# Altium schematic symbol library микросхемы прочие.SchLib: 59 symbols
Pins are listed as number, name and electrical type; pins without a type are passive.

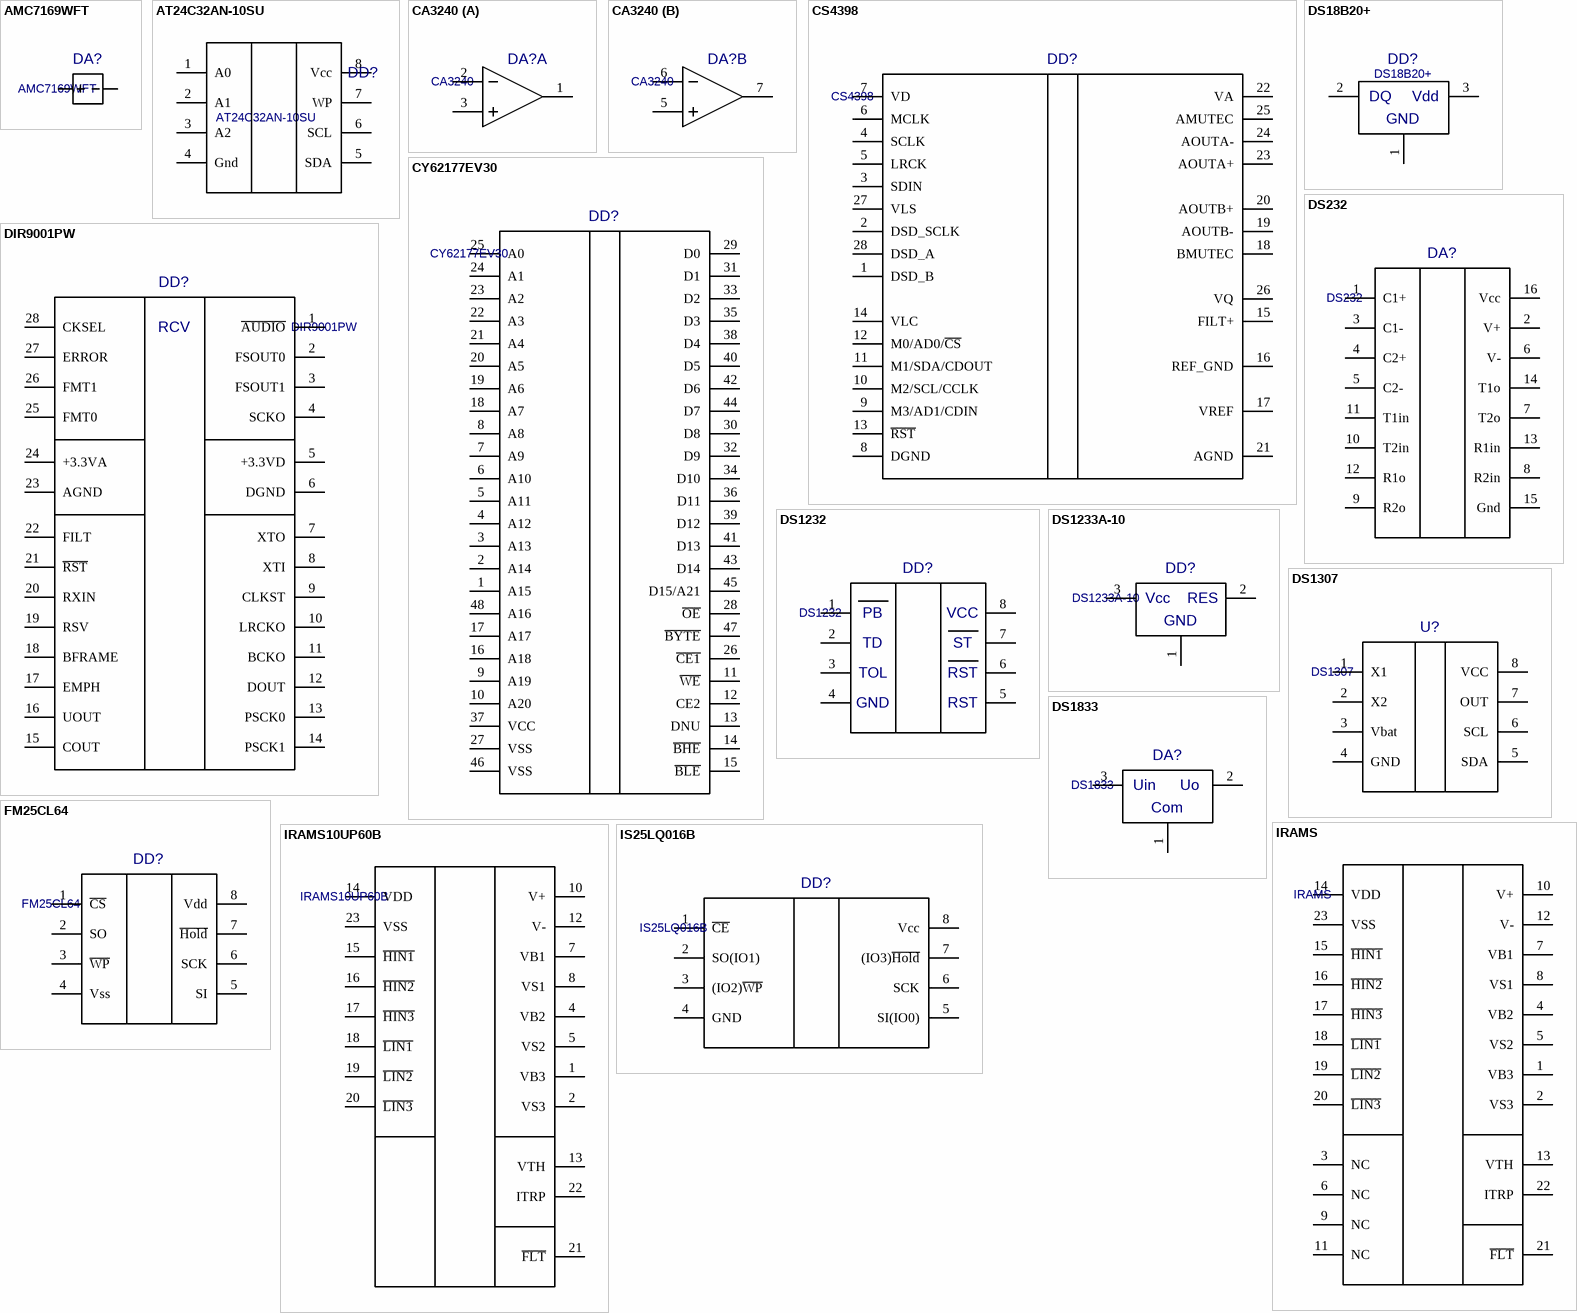
[diagram p0: symbols AMC7169WFT to IS25LQ016B]

## AMC7169WFT
designator DA?
Value: AMC7169WFT
footprint AMC7169
pins: 1 A, 2 K

## AT24C32AN-10SU
designator DD?
Two-wire / Serial EEPROM / 32K (4096 x 8); Value: AT24C32AN-10SU
footprint SO8
pins: 1 A0, 2 A1, 3 A2, 4 Gnd, 5 SDA, 6 SCL, 7 WP, 8 Vcc

## CA3240
designator DA?
Value: CA3240
footprint DIP8
pins on every part: 4 GND (power) hidden, 8 +12V (power) hidden
part A pins: 1 OUT, 2 IN-, 3 IN+
part B pins: 5 IN+, 6 IN-, 7 OUT

## CS4398
designator DD?
Value: CS4398
footprint TSSOP28
pins: 1 DSD_B, 2 DSD_SCLK, 3 SDIN, 4 SCLK, 5 LRCK, 6 MCLK, 7 VD, 8 DGND, 9 M3/AD1/CDIN, 10 M2/SCL/CCLK, 11 M1/SDA/CDOUT, 12 M0/AD0/~{CS}, 13 ~{RST}, 14 VLC, 15 FILT+, 16 REF_GND, 17 VREF, 18 BMUTEC, 19 AOUTB-, 20 AOUTB+, 21 AGND, 22 VA, 23 AOUTA+, 24 AOUTA-, 25 AMUTEC, 26 VQ, 27 VLS, 28 DSD_A

## CY62177EV30
designator DD?
Value: CY62177EV30
footprint TSOP48
pins: 1 A15, 2 A14, 3 A13, 4 A12, 5 A11, 6 A10, 7 A9, 8 A8, 9 A19, 10 A20, 11 ~{WE}, 12 CE2, 13 DNU, 14 ~{BHE}, 15 ~{BLE}, 16 A18, 17 A17, 18 A7, 19 A6, 20 A5, 21 A4, 22 A3, 23 A2, 24 A1, 25 A0, 26 ~{CE1}, 27 VSS, 28 ~{OE}, 29 D0, 30 D8, 31 D1, 32 D9, 33 D2, 34 D10, 35 D3, 36 D11, 37 VCC, 38 D4, 39 D12, 40 D5, 41 D13, 42 D6, 43 D14, 44 D7, 45 D15/A21, 46 VSS, 47 ~{BYTE}, 48 A16

## DIR9001PW
designator DD?
Value: DIR9001PW
footprint SSOP28
pins: 1 ~{AUDIO}, 2 FSOUT0, 3 FSOUT1, 4 SCKO, 5 +3.3VD, 6 DGND, 7 XTO, 8 XTI, 9 CLKST, 10 LRCKO, 11 BCKO, 12 DOUT, 13 PSCK0, 14 PSCK1, 15 COUT, 16 UOUT, 17 EMPH, 18 BFRAME, 19 RSV, 20 RXIN, 21 ~{RST}, 22 FILT, 23 AGND, 24 +3.3VA, 25 FMT0, 26 FMT1, 27 ERROR, 28 CKSEL
text: RCV

## DS18B20+
designator DD?
Value: DS18B20+
footprint TO-92
pins: 1, 2, 3
text: DQ; Vdd; GND

## DS232
designator DA?
Value: DS232
footprint DIP16
pins: 1 C1+, 2 V+, 3 C1-, 4 C2+, 5 C2-, 6 V-, 7 T2o, 8 R2in, 9 R2o, 10 T2in, 11 T1in, 12 R1o, 13 R1in, 14 T1o, 15 Gnd, 16 Vcc

## DS1232
designator DD?
Value: DS1232
footprint DIP8
pins: 1, 2, 3, 4 GND, 5, 6, 7, 8 +5V
text: PB; VCC; TD; ST; TOL; RST

## DS1233A-10
designator DD?
Value: DS1233A-10
footprint TO-92
pins: 1, 2, 3
text: Vcc; RES; GND

## DS1307
designator U?
Value: DS1307
pins: 1 X1, 2 X2, 3 Vbat, 4 GND, 5 SDA, 6 SCL, 7 OUT, 8 VCC

## DS1833
designator DA?
Value: DS1833
footprint TO-92
pins: 1, 2, 3
text: Uin; Uo; Com

## FM25CL64
designator DD?
Value: FM25CL64
footprint SO8
pins: 1 ~{CS}, 2 SO, 3 ~{WP}, 4 Vss, 5 SI, 6 SCK, 7 ~{Hold}, 8 Vdd

## IRAMS
designator U?
Value: IRAMS
pins: 1 VB3, 2 VS3, 3 NC, 4 VB2, 5 VS2, 6 NC, 7 VB1, 8 VS1, 9 NC, 10 V+, 11 NC, 12 V-, 13 VTH, 14 VDD, 15 ~{HIN1}, 16 ~{HIN2}, 17 ~{HIN3}, 18 ~{LIN1}, 19 ~{LIN2}, 20 ~{LIN3}, 21 ~{FLT}, 22 ITRP, 23 VSS

## IRAMS10UP60B
designator DA?
Value: IRAMS10UP60B
footprint IRAMS10UP60B
pins: 1 VB3, 2 VS3, 4 VB2, 5 VS2, 7 VB1, 8 VS1, 10 V+, 12 V-, 13 VTH, 14 VDD, 15 ~{HIN1}, 16 ~{HIN2}, 17 ~{HIN3}, 18 ~{LIN1}, 19 ~{LIN2}, 20 ~{LIN3}, 21 ~{FLT}, 22 ITRP, 23 VSS

## IS25LQ016B
designator DD?
Value: IS25LQ016B
footprint SO8
pins: 1 ~{CE}, 2 SO(IO1), 3 (IO2)~{WP}, 4 GND, 5 SI(IO0), 6 SCK, 7 (IO3)~{Hold}, 8 Vcc

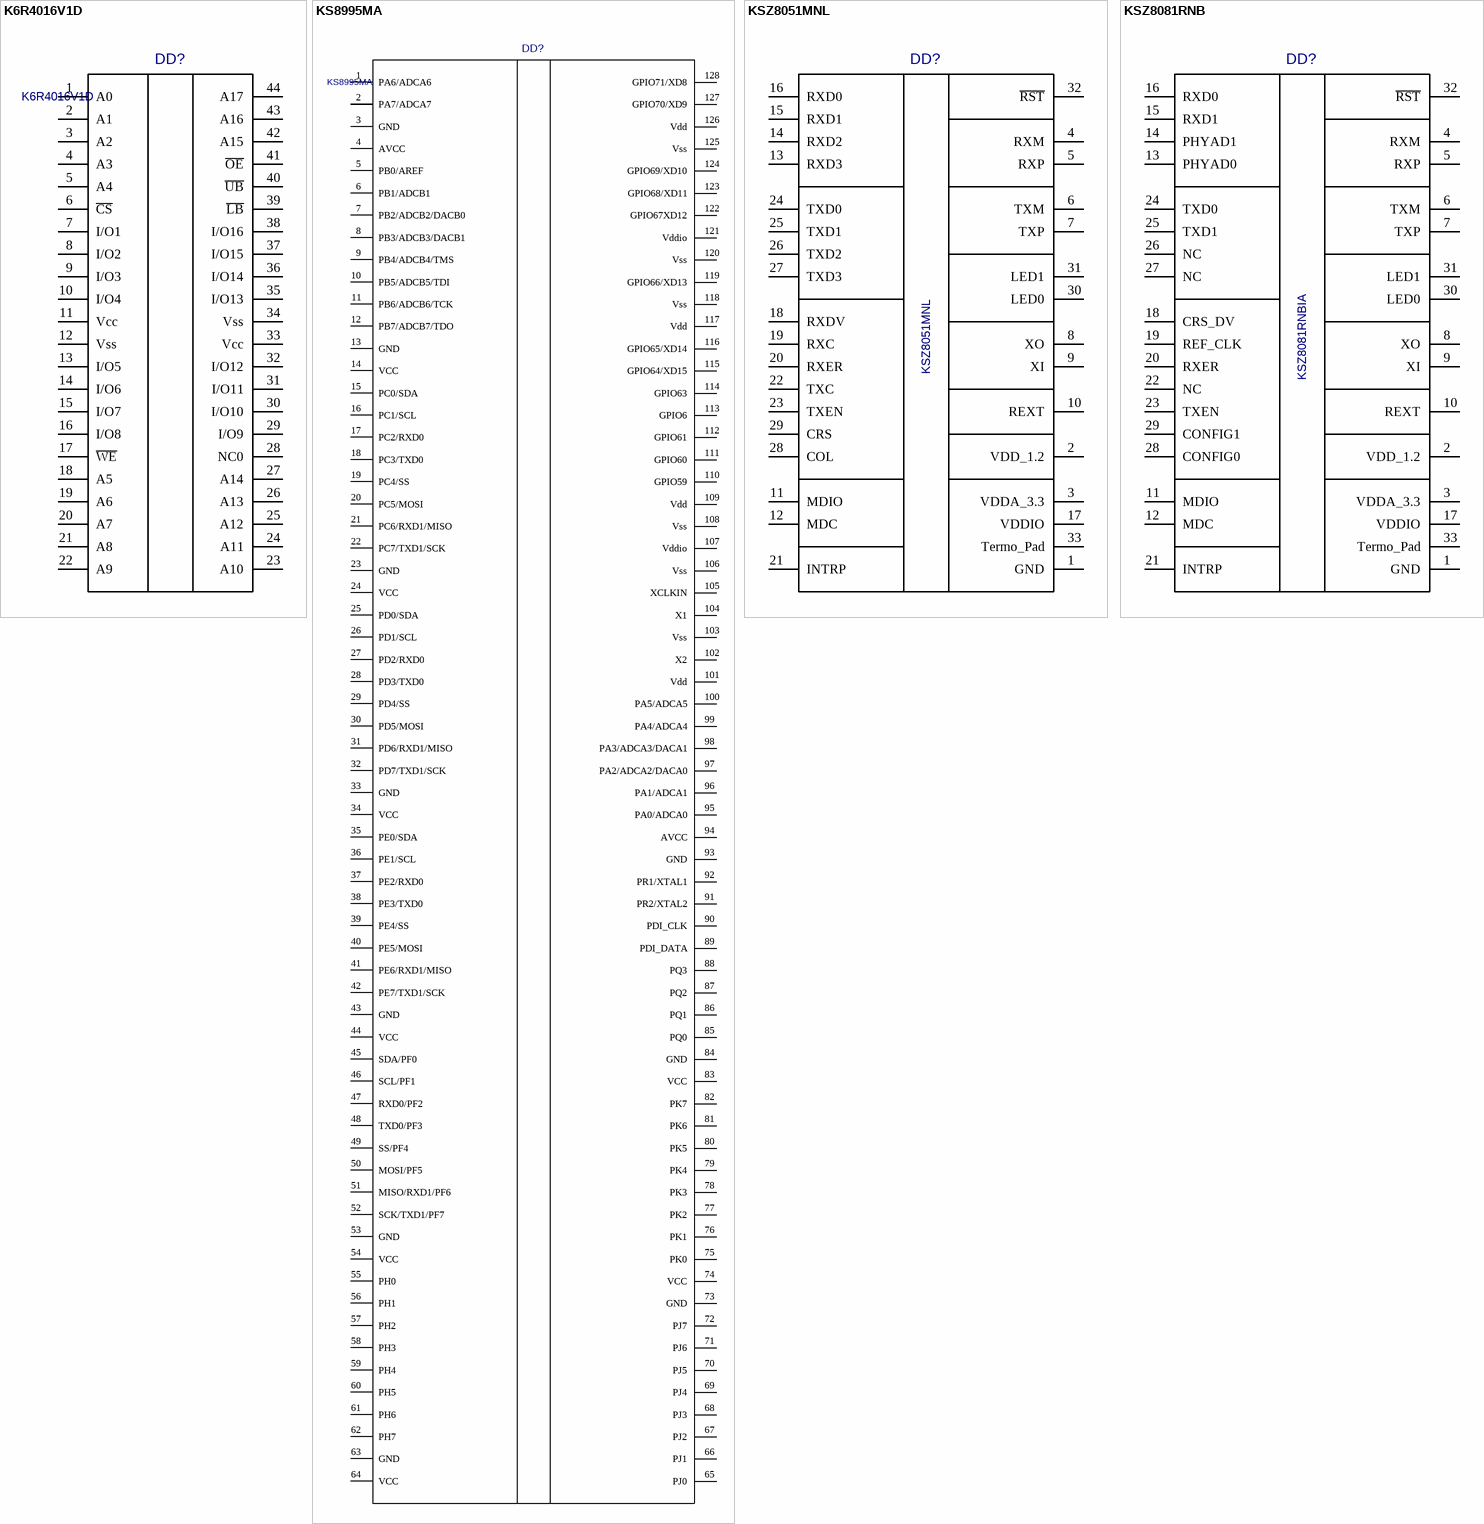
[diagram p1: symbols K6R4016V1D to KSZ8081RNB]

## K6R4016V1D
designator DD?
Value: K6R4016V1D
footprint K6R4016V1D
pins: 1 A0, 2 A1, 3 A2, 4 A3, 5 A4, 6 ~{CS}, 7 I/O1, 8 I/O2, 9 I/O3, 10 I/O4, 11 Vcc, 12 Vss, 13 I/O5, 14 I/O6, 15 I/O7, 16 I/O8, 17 ~{WE}, 18 A5, 19 A6, 20 A7, 21 A8, 22 A9, 23 A10, 24 A11, 25 A12, 26 A13, 27 A14, 28 NC0, 29 I/O9, 30 I/O10, 31 I/O11, 32 I/O12, 33 Vcc, 34 Vss, 35 I/O13, 36 I/O14, 37 I/O15, 38 I/O16, 39 ~{LB}, 40 ~{UB}, 41 ~{OE}, 42 A15, 43 A16, 44 A17

## KS8995MA
designator DD?
Value: KS8995MA
footprint PQFP128-STEP0.5
pins: 1 PA6/ADCA6, 2 PA7/ADCA7, 3 GND, 4 AVCC, 5 PB0/AREF, 6 PB1/ADCB1, 7 PB2/ADCB2/DACB0, 8 PB3/ADCB3/DACB1, 9 PB4/ADCB4/TMS, 10 PB5/ADCB5/TDI, 11 PB6/ADCB6/TCK, 12 PB7/ADCB7/TDO, 13 GND, 14 VCC, 15 PC0/SDA, 16 PC1/SCL, 17 PC2/RXD0, 18 PC3/TXD0, 19 PC4/SS, 20 PC5/MOSI, 21 PC6/RXD1/MISO, 22 PC7/TXD1/SCK, 23 GND, 24 VCC, 25 PD0/SDA, 26 PD1/SCL, 27 PD2/RXD0, 28 PD3/TXD0, 29 PD4/SS, 30 PD5/MOSI, 31 PD6/RXD1/MISO, 32 PD7/TXD1/SCK, 33 GND, 34 VCC, 35 PE0/SDA, 36 PE1/SCL, 37 PE2/RXD0, 38 PE3/TXD0, 39 PE4/SS, 40 PE5/MOSI, 41 PE6/RXD1/MISO, 42 PE7/TXD1/SCK, 43 GND, 44 VCC, 45 SDA/PF0, 46 SCL/PF1, 47 RXD0/PF2, 48 TXD0/PF3, 49 SS/PF4, 50 MOSI/PF5, 51 MISO/RXD1/PF6, 52 SCK/TXD1/PF7, 53 GND, 54 VCC, 55 PH0, 56 PH1, 57 PH2, 58 PH3, 59 PH4, 60 PH5, 61 PH6, 62 PH7, 63 GND, 64 VCC, 65 PJ0, 66 PJ1, 67 PJ2, 68 PJ3, 69 PJ4, 70 PJ5, 71 PJ6, 72 PJ7, 73 GND, 74 VCC, 75 PK0, 76 PK1, 77 PK2, 78 PK3, 79 PK4, 80 PK5, 81 PK6, 82 PK7, 83 VCC, 84 GND, 85 PQ0, 86 PQ1, 87 PQ2, 88 PQ3, 89 PDI_DATA, 90 PDI_CLK, 91 PR2/XTAL2, 92 PR1/XTAL1, 93 GND, 94 AVCC, 95 PA0/ADCA0, 96 PA1/ADCA1, 97 PA2/ADCA2/DACA0, 98 PA3/ADCA3/DACA1, 99 PA4/ADCA4, 100 PA5/ADCA5, 101 Vdd, 102 X2, 103 Vss, 104 X1, 105 XCLKIN, 106 Vss, 107 Vddio, 108 Vss, 109 Vdd, 110 GPIO59, 111 GPIO60, 112 GPIO61, 113 GPIO6, 114 GPIO63, 115 GPIO64/XD15, 116 GPIO65/XD14, 117 Vdd, 118 Vss, 119 GPIO66/XD13, 120 Vss, 121 Vddio, 122 GPIO67XD12, 123 GPIO68/XD11, 124 GPIO69/XD10, 125 Vss, 126 Vdd, 127 GPIO70/XD9, 128 GPIO71/XD8

## KSZ8051MNL
designator DD?
Value: KSZ8051MNL
footprint QFN32+TERMO_PAD
pins: 1 GND, 2 VDD_1.2, 3 VDDA_3.3, 4 RXM, 5 RXP, 6 TXM, 7 TXP, 8 XO, 9 XI, 10 REXT, 11 MDIO, 12 MDC, 13 RXD3, 14 RXD2, 15 RXD1, 16 RXD0, 17 VDDIO, 18 RXDV, 19 RXC, 20 RXER, 21 INTRP, 22 TXC, 23 TXEN, 24 TXD0, 25 TXD1, 26 TXD2, 27 TXD3, 28 COL, 29 CRS, 30 LED0, 31 LED1, 32 ~{RST}, 33 Termo_Pad

## KSZ8081RNB
designator DD?, comment KSZ8081RNBIA
Value: KSZ8081RNBIA
footprint QFN32+TERMO_PAD
pins: 1 GND, 2 VDD_1.2, 3 VDDA_3.3, 4 RXM, 5 RXP, 6 TXM, 7 TXP, 8 XO, 9 XI, 10 REXT, 11 MDIO, 12 MDC, 13 PHYAD0, 14 PHYAD1, 15 RXD1, 16 RXD0, 17 VDDIO, 18 CRS_DV, 19 REF_CLK, 20 RXER, 21 INTRP, 22 NC, 23 TXEN, 24 TXD0, 25 TXD1, 26 NC, 27 NC, 28 CONFIG0, 29 CONFIG1, 30 LED0, 31 LED1, 32 ~{RST}, 33 Termo_Pad

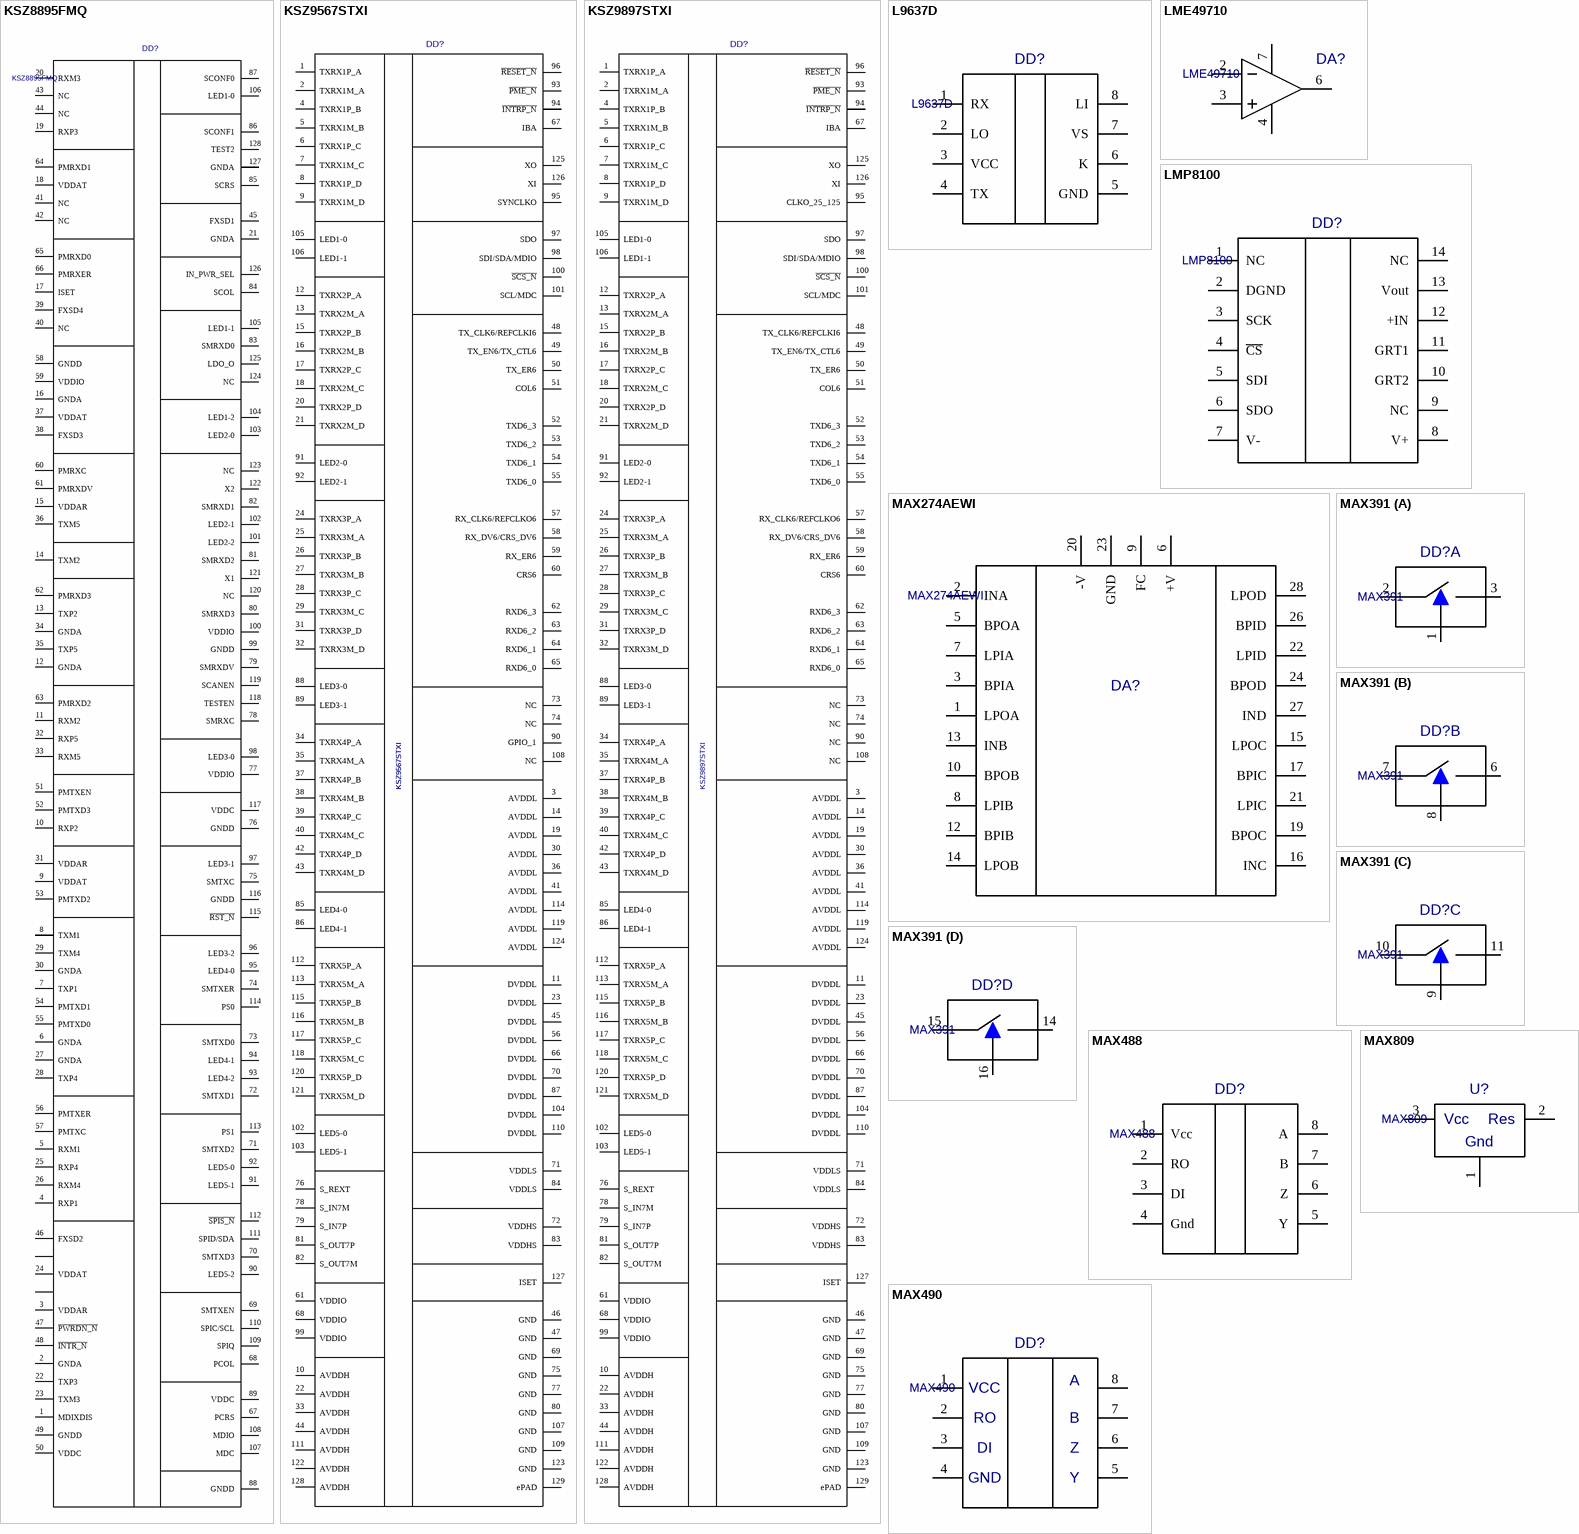
[diagram p2: symbols KSZ8895FMQ to MAX809]

## KSZ8895FMQ
designator DD?
Value: KSZ8895FMQ
footprint PQFP128-STEP0.5
pins: 1 MDIXDIS, 2 GNDA, 3 VDDAR, 4 RXP1, 5 RXM1, 6 GNDA, 7 TXP1, 8 TXM1, 9 VDDAT, 10 RXP2, 11 RXM2, 12 GNDA, 13 TXP2, 14 TXM2, 15 VDDAR, 16 GNDA, 17 ISET, 18 VDDAT, 19 RXP3, 20 RXM3, 21 GNDA, 22 TXP3, 23 TXM3, 24 VDDAT, 25 RXP4, 26 RXM4, 27 GNDA, 28 TXP4, 29 TXM4, 30 GNDA, 31 VDDAR, 32 RXP5, 33 RXM5, 34 GNDA, 35 TXP5, 36 TXM5, 37 VDDAT, 38 FXSD3, 39 FXSD4, 40 NC, 41 NC, 42 NC, 43 NC, 44 NC, 45 FXSD1, 46 FXSD2, 47 ~{PWRDN_N}, 48 ~{INTR_N}, 49 GNDD, 50 VDDC, 51 PMTXEN, 52 PMTXD3, 53 PMTXD2, 54 PMTXD1, 55 PMTXD0, 56 PMTXER, 57 PMTXC, 58 GNDD, 59 VDDIO, 60 PMRXC, 61 PMRXDV, 62 PMRXD3, 63 PMRXD2, 64 PMRXD1, 65 PMRXD0, 66 PMRXER, 67 PCRS, 68 PCOL, 69 SMTXEN, 70 SMTXD3, 71 SMTXD2, 72 SMTXD1, 73 SMTXD0, 74 SMTXER, 75 SMTXC, 76 GNDD, 77 VDDIO, 78 SMRXC, 79 SMRXDV, 80 SMRXD3, 81 SMRXD2, 82 SMRXD1, 83 SMRXD0, 84 SCOL, 85 SCRS, 86 SCONF1, 87 SCONF0, 88 GNDD, 89 VDDC, 90 LED5-2, 91 LED5-1, 92 LED5-0, 93 LED4-2, 94 LED4-1, 95 LED4-0, 96 LED3-2, 97 LED3-1, 98 LED3-0, 99 GNDD, 100 VDDIO, 101 LED2-2, 102 LED2-1, 103 LED2-0, 104 LED1-2, 105 LED1-1, 106 LED1-0, 107 MDC, 108 MDIO, 109 SPIQ, 110 SPIC/SCL, 111 SPID/SDA, 112 ~{SPIS_N}, 113 PS1, 114 PS0, 115 ~{RST_N}, 116 GNDD, 117 VDDC, 118 TESTEN, 119 SCANEN, 120 NC, 121 X1, 122 X2, 123 NC, 124 NC, 125 LDO_O, 126 IN_PWR_SEL, 127 GNDA, 128 TEST2

## KSZ9567STXI
designator DD?
Value: KSZ9567STXI
footprint TQFP-128_WITH_TERMO_PAD
pins: 1 TXRX1P_A, 2 TXRX1M_A, 3 AVDDL, 4 TXRX1P_B, 5 TXRX1M_B, 6 TXRX1P_C, 7 TXRX1M_C, 8 TXRX1P_D, 9 TXRX1M_D, 10 AVDDH, 11 DVDDL, 12 TXRX2P_A, 13 TXRX2M_A, 14 AVDDL, 15 TXRX2P_B, 16 TXRX2M_B, 17 TXRX2P_C, 18 TXRX2M_C, 19 AVDDL, 20 TXRX2P_D, 21 TXRX2M_D, 22 AVDDH, 23 DVDDL, 24 TXRX3P_A, 25 TXRX3M_A, 26 TXRX3P_B, 27 TXRX3M_B, 28 TXRX3P_C, 29 TXRX3M_C, 30 AVDDL, 31 TXRX3P_D, 32 TXRX3M_D, 33 AVDDH, 34 TXRX4P_A, 35 TXRX4M_A, 36 AVDDL, 37 TXRX4P_B, 38 TXRX4M_B, 39 TXRX4P_C, 40 TXRX4M_C, 41 AVDDL, 42 TXRX4P_D, 43 TXRX4M_D, 44 AVDDH, 45 DVDDL, 46 GND, 47 GND, 48 TX_CLK6/REFCLKI6, 49 TX_EN6/TX_CTL6, 50 TX_ER6, 51 COL6, 52 TXD6_3, 53 TXD6_2, 54 TXD6_1, 55 TXD6_0, 56 DVDDL, 57 RX_CLK6/REFCLKO6, 58 RX_DV6/CRS_DV6, 59 RX_ER6, 60 CRS6, 61 VDDIO, 62 RXD6_3, 63 RXD6_2, 64 RXD6_1, 65 RXD6_0, 66 DVDDL, 67 IBA, 68 VDDIO, 69 GND, 70 DVDDL, 71 VDDLS, 72 VDDHS, 73 NC, 74 NC, 75 GND, 76 S_REXT, 77 GND, 78 S_IN7M, 79 S_IN7P, 80 GND, 81 S_OUT7P, 82 S_OUT7M, 83 VDDHS, 84 VDDLS, 85 LED4-0, 86 LED4-1, 87 DVDDL, 88 LED3-0, 89 LED3-1, 90 GPIO_1, 91 LED2-0, 92 LED2-1, 93 ~{PME_N}, 94 ~{INTRP_N}, 95 SYNCLKO, 96 ~{RESET_N}, 97 SDO, 98 SDI/SDA/MDIO, 99 VDDIO, 100 ~{SCS_N}, 101 SCL/MDC, 102 LED5-0, 103 LED5-1, 104 DVDDL, 105 LED1-0, 106 LED1-1, 107 GND, 108 NC, 109 GND, 110 DVDDL, 111 AVDDH, 112 TXRX5P_A, 113 TXRX5M_A, 114 AVDDL, 115 TXRX5P_B, 116 TXRX5M_B, 117 TXRX5P_C, 118 TXRX5M_C, 119 AVDDL, 120 TXRX5P_D, 121 TXRX5M_D, 122 AVDDH, 123 GND, 124 AVDDL, 125 XO, 126 XI, 127 ISET, 128 AVDDH, 129 ePAD

## KSZ9897STXI
designator DD?
Value: KSZ9897STXI
footprint TQFP-128_WITH_TERMO_PAD
pins: 1 TXRX1P_A, 2 TXRX1M_A, 3 AVDDL, 4 TXRX1P_B, 5 TXRX1M_B, 6 TXRX1P_C, 7 TXRX1M_C, 8 TXRX1P_D, 9 TXRX1M_D, 10 AVDDH, 11 DVDDL, 12 TXRX2P_A, 13 TXRX2M_A, 14 AVDDL, 15 TXRX2P_B, 16 TXRX2M_B, 17 TXRX2P_C, 18 TXRX2M_C, 19 AVDDL, 20 TXRX2P_D, 21 TXRX2M_D, 22 AVDDH, 23 DVDDL, 24 TXRX3P_A, 25 TXRX3M_A, 26 TXRX3P_B, 27 TXRX3M_B, 28 TXRX3P_C, 29 TXRX3M_C, 30 AVDDL, 31 TXRX3P_D, 32 TXRX3M_D, 33 AVDDH, 34 TXRX4P_A, 35 TXRX4M_A, 36 AVDDL, 37 TXRX4P_B, 38 TXRX4M_B, 39 TXRX4P_C, 40 TXRX4M_C, 41 AVDDL, 42 TXRX4P_D, 43 TXRX4M_D, 44 AVDDH, 45 DVDDL, 46 GND, 47 GND, 48 TX_CLK6/REFCLKI6, 49 TX_EN6/TX_CTL6, 50 TX_ER6, 51 COL6, 52 TXD6_3, 53 TXD6_2, 54 TXD6_1, 55 TXD6_0, 56 DVDDL, 57 RX_CLK6/REFCLKO6, 58 RX_DV6/CRS_DV6, 59 RX_ER6, 60 CRS6, 61 VDDIO, 62 RXD6_3, 63 RXD6_2, 64 RXD6_1, 65 RXD6_0, 66 DVDDL, 67 IBA, 68 VDDIO, 69 GND, 70 DVDDL, 71 VDDLS, 72 VDDHS, 73 NC, 74 NC, 75 GND, 76 S_REXT, 77 GND, 78 S_IN7M, 79 S_IN7P, 80 GND, 81 S_OUT7P, 82 S_OUT7M, 83 VDDHS, 84 VDDLS, 85 LED4-0, 86 LED4-1, 87 DVDDL, 88 LED3-0, 89 LED3-1, 90 NC, 91 LED2-0, 92 LED2-1, 93 ~{PME_N}, 94 ~{INTRP_N}, 95 CLKO_25_125, 96 ~{RESET_N}, 97 SDO, 98 SDI/SDA/MDIO, 99 VDDIO, 100 ~{SCS_N}, 101 SCL/MDC, 102 LED5-0, 103 LED5-1, 104 DVDDL, 105 LED1-0, 106 LED1-1, 107 GND, 108 NC, 109 GND, 110 DVDDL, 111 AVDDH, 112 TXRX5P_A, 113 TXRX5M_A, 114 AVDDL, 115 TXRX5P_B, 116 TXRX5M_B, 117 TXRX5P_C, 118 TXRX5M_C, 119 AVDDL, 120 TXRX5P_D, 121 TXRX5M_D, 122 AVDDH, 123 GND, 124 AVDDL, 125 XO, 126 XI, 127 ISET, 128 AVDDH, 129 ePAD

## L9637D
designator DD?
Value: L9637D
footprint SO8
pins: 1 RX, 2 LO, 3 VCC, 4 TX, 5 GND, 6 K, 7 VS, 8 LI

## LME49710
designator DA?
Value: LME49710
footprint DIP8
pins: 1 hidden, 2 IN-, 3 IN+, 4 VCC, 5 hidden, 6 OUT, 7 GND, 8 hidden

## LMP8100
designator DD?
Value: LMP8100
footprint SO14
pins: 1 NC, 2 DGND, 3 SCK, 4 ~{CS}, 5 SDI, 6 SDO, 7 V-, 8 V+, 9 NC, 10 GRT2, 11 GRT1, 12 +IN, 13 Vout, 14 NC

## MAX274AEWI
designator DA?
Value: MAX274AEWI
footprint SOL28
pins: 1 LPOA, 2 INA, 3 BPIA, 4 hidden, 5 BPOA, 6 +V, 7 LPIA, 8 LPIB, 9 FC, 10 BPOB, 11 hidden, 12 BPIB, 13 INB, 14 LPOB, 15 LPOC, 16 INC, 17 BPIC, 18 hidden, 19 BPOC, 20 -V, 21 LPIC, 22 LPID, 23 GND, 24 BPOD, 25 hidden, 26 BPID, 27 IND, 28 LPOD

## MAX391
designator DD?
Value: MAX391
footprint DIP16
pins on every part: 4 -9V (power) hidden, 5 GND (power) hidden, 12 hidden, 13 +9V (power) hidden
part A pins: 1 A, 2 B, 3 C
part B pins: 6 C, 7 B, 8 A
part C pins: 9 A, 10 B, 11 C
part D pins: 14 C, 15 B, 16 A

## MAX488
designator DD?
Value: MAX488
footprint SO8
pins: 1 Vcc, 2 RO, 3 DI, 4 Gnd, 5 Y, 6 Z, 7 B, 8 A

## MAX490
designator DD?
Value: MAX490
footprint DIP8
pins: 1 +5V, 2, 3, 4 GND, 5, 6, 7, 8
text: A; VCC; RO; B; DI; Z; Y

## MAX809
designator U?
Value: MAX809
footprint SOT-23
pins: 1, 2, 3
text: Vcc; Res; Gnd

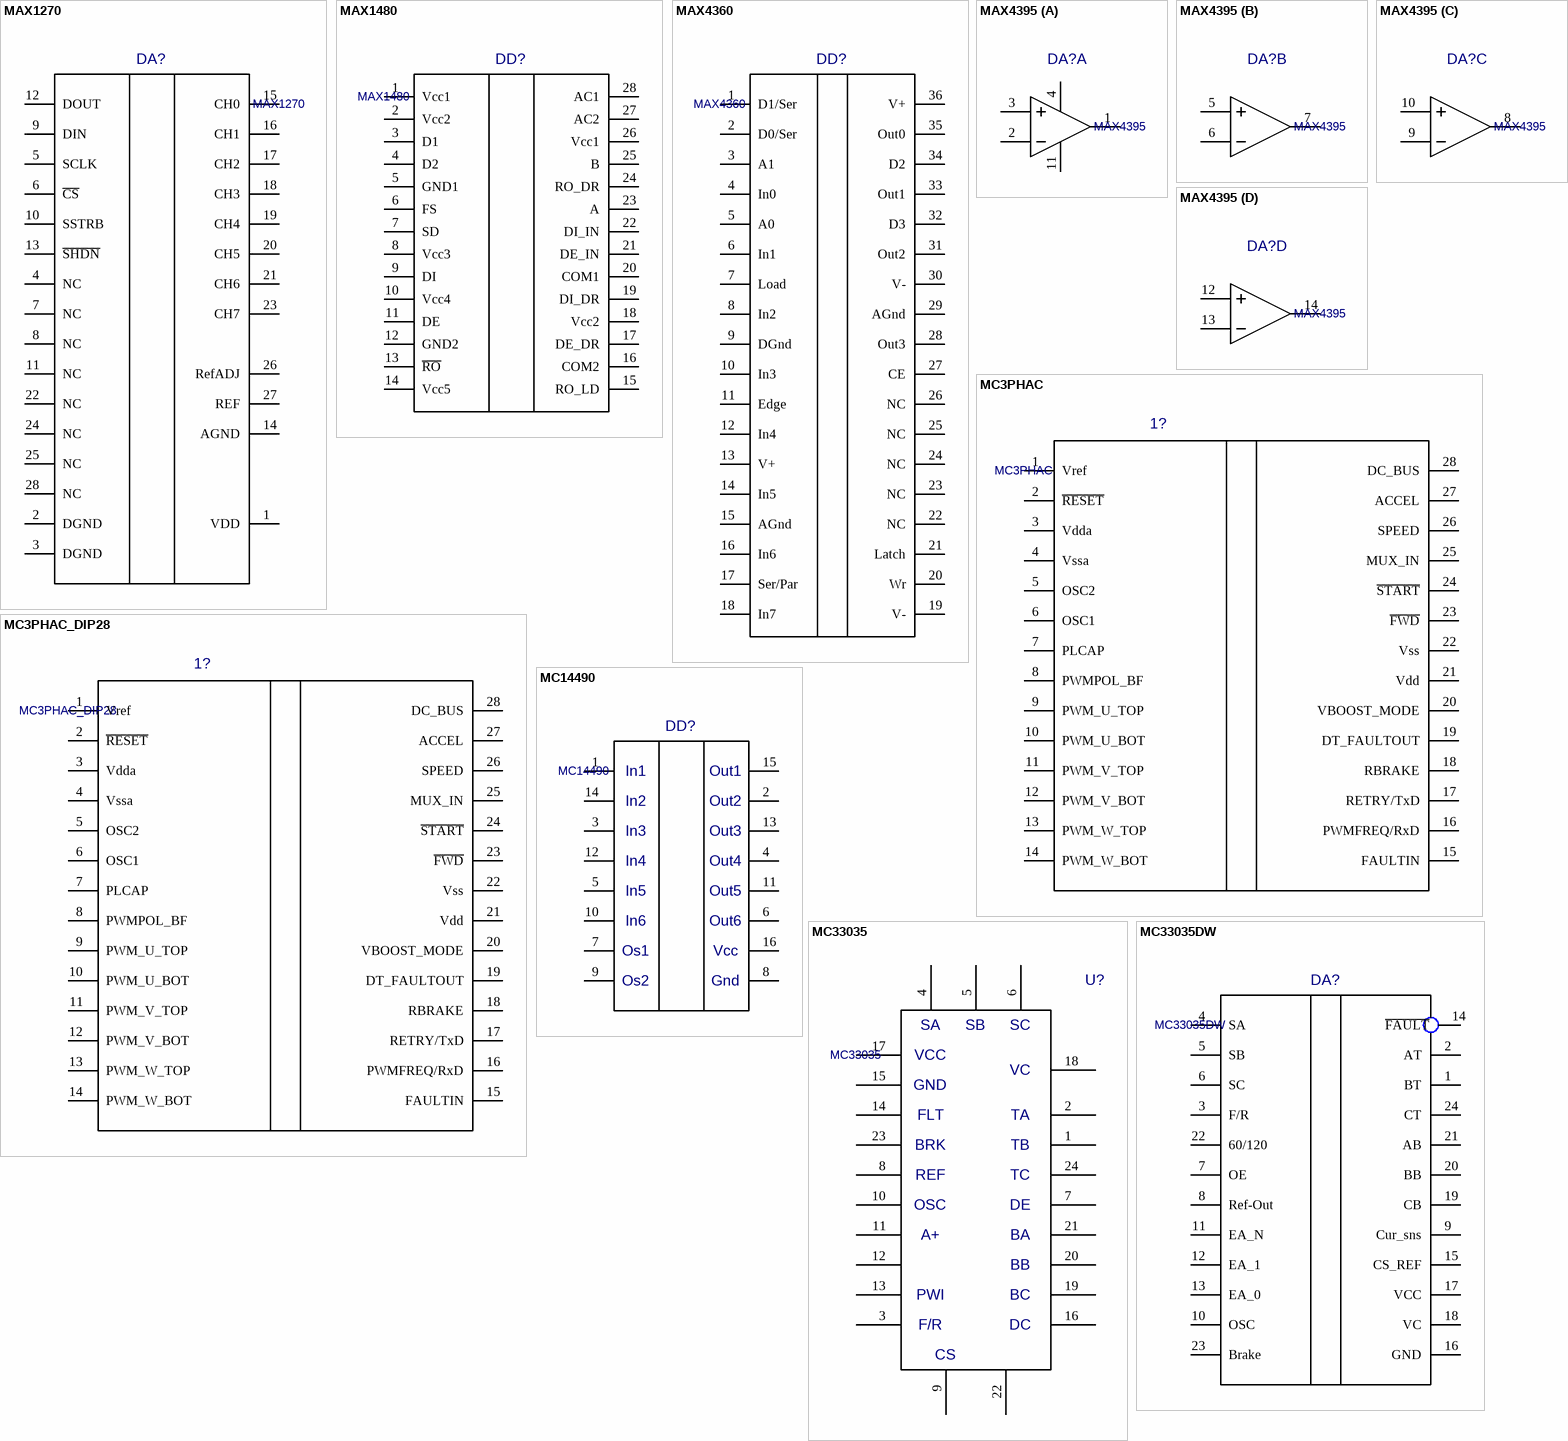
[diagram p3: symbols MAX1270 to MC33035DW]

## MAX1270
designator DA?
Value: MAX1270
footprint SSOP28
pins: 1 VDD, 2 DGND, 3 DGND, 4 NC, 5 SCLK, 6 ~{CS}, 7 NC, 8 NC, 9 DIN, 10 SSTRB, 11 NC, 12 DOUT, 13 ~{SHDN}, 14 AGND, 15 CH0, 16 CH1, 17 CH2, 18 CH3, 19 CH4, 20 CH5, 21 CH6, 22 NC, 23 CH7, 24 NC, 25 NC, 26 RefADJ, 27 REF, 28 NC

## MAX1480
designator DD?
Value: MAX1480
footprint DIP28
pins: 1 Vcc1, 2 Vcc2, 3 D1, 4 D2, 5 GND1, 6 FS, 7 SD, 8 Vcc3, 9 DI, 10 Vcc4, 11 DE, 12 GND2, 13 ~{RO}, 14 Vcc5, 15 RO_LD, 16 COM2, 17 DE_DR, 18 Vcc2, 19 DI_DR, 20 COM1, 21 DE_IN, 22 DI_IN, 23 A, 24 RO_DR, 25 B, 26 Vcc1, 27 AC2, 28 AC1

## MAX4360
designator DD?
Value: MAX4360
footprint SSOP36
pins: 1 D1/Ser, 2 D0/Ser, 3 A1, 4 In0, 5 A0, 6 In1, 7 Load, 8 In2, 9 DGnd, 10 In3, 11 Edge, 12 In4, 13 V+, 14 In5, 15 AGnd, 16 In6, 17 Ser/Par, 18 In7, 19 V-, 20 Wr, 21 Latch, 22 NC, 23 NC, 24 NC, 25 NC, 26 NC, 27 CE, 28 Out3, 29 AGnd, 30 V-, 31 Out2, 32 D3, 33 Out1, 34 D2, 35 Out0, 36 V+

## MAX4395
designator DA?
Value: MAX4395
footprint TSSOP14
part A pins: 1 OUT, 2 IN-, 3 IN+, 4 Vcc, 11 Vee
part B pins: 5 IN+, 6 IN-, 7 OutB
part C pins: 8 OutC, 9 IN-, 10 IN+
part D pins: 12 IN+, 13 IN-, 14 OutD

## MC3PHAC
designator 1?
Value: MC3PHAC
footprint SOL28
pins: 1 Vref, 2 ~{RESET}, 3 Vdda, 4 Vssa, 5 OSC2, 6 OSC1, 7 PLCAP, 8 PWMPOL_BF, 9 PWM_U_TOP, 10 PWM_U_BOT, 11 PWM_V_TOP, 12 PWM_V_BOT, 13 PWM_W_TOP, 14 PWM_W_BOT, 15 FAULTIN, 16 PWMFREQ/RxD, 17 RETRY/TxD, 18 RBRAKE, 19 DT_FAULTOUT, 20 VBOOST_MODE, 21 Vdd, 22 Vss, 23 ~{FWD}, 24 ~{START}, 25 MUX_IN, 26 SPEED, 27 ACCEL, 28 DC_BUS

## MC3PHAC_DIP28
designator 1?
Value: MC3PHAC_DIP28
footprint DIP28
pins: 1 Vref, 2 ~{RESET}, 3 Vdda, 4 Vssa, 5 OSC2, 6 OSC1, 7 PLCAP, 8 PWMPOL_BF, 9 PWM_U_TOP, 10 PWM_U_BOT, 11 PWM_V_TOP, 12 PWM_V_BOT, 13 PWM_W_TOP, 14 PWM_W_BOT, 15 FAULTIN, 16 PWMFREQ/RxD, 17 RETRY/TxD, 18 RBRAKE, 19 DT_FAULTOUT, 20 VBOOST_MODE, 21 Vdd, 22 Vss, 23 ~{FWD}, 24 ~{START}, 25 MUX_IN, 26 SPEED, 27 ACCEL, 28 DC_BUS

## MC14490
designator DD?
Value: MC14490
footprint DIP16
pins: 1 IN1, 2 OUT2, 3 IN3, 4 OUT4, 5 IN5, 6 OUT6, 7 OS1, 8 GND (power), 9 OS2, 10 IN6, 11 OUT5, 12 IN4, 13 OUT3, 14 IN2, 15 OUT1, 16 +5V (power)
text: In1; Out1; In2; Out2; In3; Out3; In4; Out4; In5; Out5; In6; Out6; Os1; Vcc; Os2; Gnd

## MC33035
designator U?
Value: MC33035
footprint DIP24
pins: 1, 2, 3, 4, 5, 6, 7, 8, 9, 10, 11, 12, 13, 14, 15, 16, 17, 18, 19, 20, 21, 22, 23, 24
text: SA; SB; SC; VCC; VC; GND; FLT; TA; BRK; TB; REF; TC; OSC; DE; A+; BA; BB; PWI; BC; F/R; DC; CS

## MC33035DW
designator DA?
Value: MC33035DW
footprint SOL24
pins: 1 BT, 2 AT, 3 F/R, 4 SA, 5 SB, 6 SC, 7 OE, 8 Ref-Out, 9 Cur_sns, 10 OSC, 11 EA_N, 12 EA_1, 13 EA_0, 14 ~{FAULT}, 15 CS_REF, 16 GND, 17 VCC, 18 VC, 19 CB, 20 BB, 21 AB, 22 60/120, 23 Brake, 24 CT

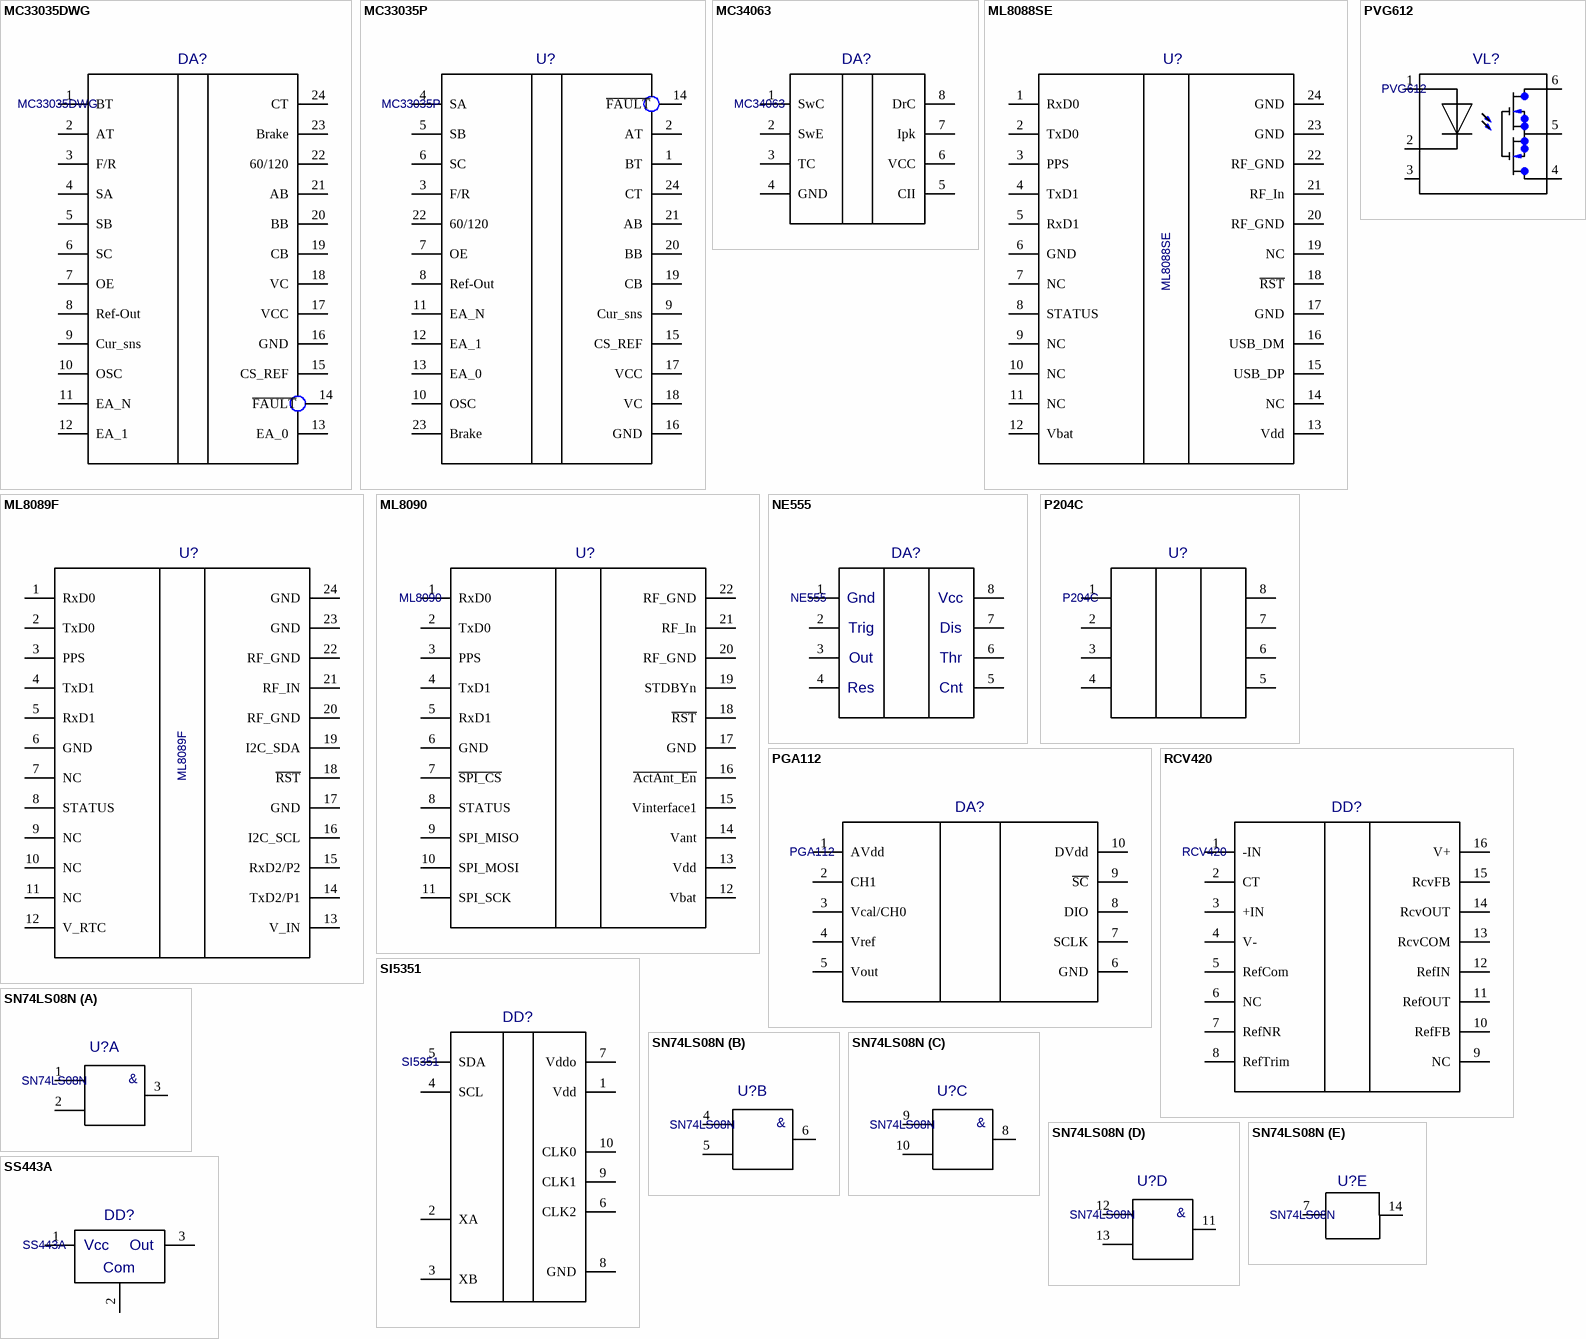
[diagram p4: symbols MC33035DWG to SS443A]

## MC33035DWG
designator DA?
Value: MC33035DWG
footprint SOL24
pins: 1 BT, 2 AT, 3 F/R, 4 SA, 5 SB, 6 SC, 7 OE, 8 Ref-Out, 9 Cur_sns, 10 OSC, 11 EA_N, 12 EA_1, 13 EA_0, 14 ~{FAULT}, 15 CS_REF, 16 GND, 17 VCC, 18 VC, 19 CB, 20 BB, 21 AB, 22 60/120, 23 Brake, 24 CT

## MC33035P
designator U?
Value: MC33035P
footprint DIP24
pins: 1 BT, 2 AT, 3 F/R, 4 SA, 5 SB, 6 SC, 7 OE, 8 Ref-Out, 9 Cur_sns, 10 OSC, 11 EA_N, 12 EA_1, 13 EA_0, 14 ~{FAULT}, 15 CS_REF, 16 GND, 17 VCC, 18 VC, 19 CB, 20 BB, 21 AB, 22 60/120, 23 Brake, 24 CT

## MC34063
designator DA?
Value: MC34063
footprint SO8
pins: 1 SwC, 2 SwE, 3 TC, 4 GND, 5 CII, 6 VCC, 7 Ipk, 8 DrC

## ML8088SE
designator U?
Value: ML8088SE
footprint ML8088SE
pins: 1 RxD0, 2 TxD0, 3 PPS, 4 TxD1, 5 RxD1, 6 GND, 7 NC, 8 STATUS, 9 NC, 10 NC, 11 NC, 12 Vbat, 13 Vdd, 14 NC, 15 USB_DP, 16 USB_DM, 17 GND, 18 ~{RST}, 19 NC, 20 RF_GND, 21 RF_In, 22 RF_GND, 23 GND, 24 GND

## ML8089F
designator U?
Value: ML8089F
footprint ML8088SE
pins: 1 RxD0, 2 TxD0, 3 PPS, 4 TxD1, 5 RxD1, 6 GND, 7 NC, 8 STATUS, 9 NC, 10 NC, 11 NC, 12 V_RTC, 13 V_IN, 14 TxD2/P1, 15 RxD2/P2, 16 I2C_SCL, 17 GND, 18 ~{RST}, 19 I2C_SDA, 20 RF_GND, 21 RF_IN, 22 RF_GND, 23 GND, 24 GND

## ML8090
designator U?
Value: ML8090
pins: 1 RxD0, 2 TxD0, 3 PPS, 4 TxD1, 5 RxD1, 6 GND, 7 ~{SPI_CS}, 8 STATUS, 9 SPI_MISO, 10 SPI_MOSI, 11 SPI_SCK, 12 Vbat, 13 Vdd, 14 Vant, 15 Vinterface1, 16 ~{ActAnt_En}, 17 GND, 18 ~{RST}, 19 STDBYn, 20 RF_GND, 21 RF_In, 22 RF_GND

## NE555
designator DA?
Value: NE555
footprint DIP8
pins: 1 VCC (power), 2 Trig, 3 Out, 4 Res, 5 Cnt, 6 Thr, 7 Dis, 8 GND (power)
text: Gnd; Vcc

## P204C
designator U?
Value: P204C
pins: 1, 2, 3, 4, 5, 6, 7, 8

## PGA112
designator DA?
Value: PGA112
footprint MSOP-10
pins: 1 AVdd, 2 CH1, 3 Vcal/CH0, 4 Vref, 5 Vout, 6 GND, 7 SCLK, 8 DIO, 9 ~{SC}, 10 DVdd

## PVG612
designator VL?
Value: PVG612
footprint DIP6
pins: 1, 2, 3, 4, 5, 6

## RCV420
designator DD?
Value: RCV420
footprint DIP16
pins: 1 -IN, 2 CT, 3 +IN, 4 V-, 5 RefCom, 6 NC, 7 RefNR, 8 RefTrim, 9 NC, 10 RefFB, 11 RefOUT, 12 RefIN, 13 RcvCOM, 14 RcvOUT, 15 RcvFB, 16 V+

## SI5351
designator DD?
Value: SI5351
footprint MSOP-10
pins: 1 Vdd, 2 XA, 3 XB, 4 SCL, 5 SDA, 6 CLK2, 7 Vddo, 8 GND, 9 CLK1, 10 CLK0

## SN74LS08N
designator U?
Value: SN74LS08N
part A pins: 1, 2, 3
part B pins: 4, 5, 6
part C pins: 8, 9, 10
part D pins: 11, 12, 13
part E pins: 7, 14
part A text: &
part B text: &
part C text: &
part D text: &

## SS443A
designator DD?
Value: SS443A
footprint SS443A
pins: 1, 2, 3
text: Vcc; Out; Com

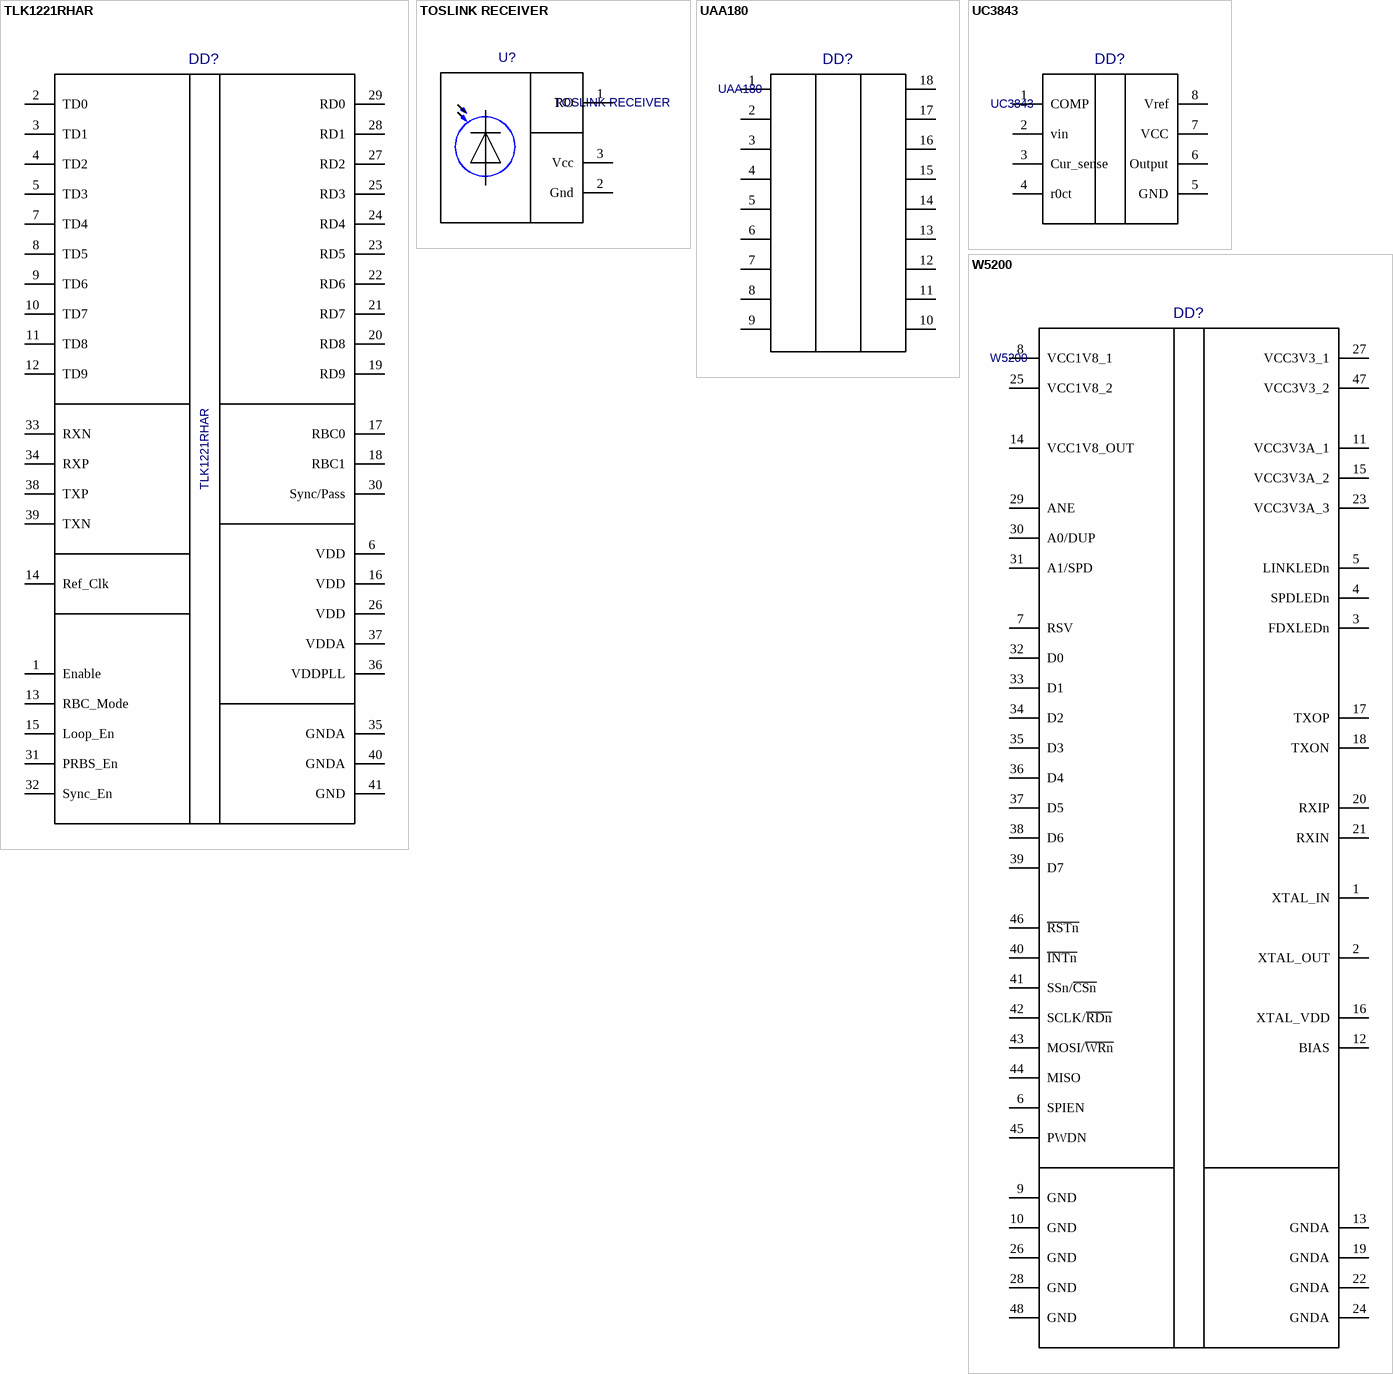
[diagram p5: symbols TLK1221RHAR to W5200]

## TLK1221RHAR
designator DD?
Value: TLK1221RHAR
footprint QFN-40_WITH_THERMO_PAD
pins: 1 Enable, 2 TD0, 3 TD1, 4 TD2, 5 TD3, 6 VDD, 7 TD4, 8 TD5, 9 TD6, 10 TD7, 11 TD8, 12 TD9, 13 RBC_Mode, 14 Ref_Clk, 15 Loop_En, 16 VDD, 17 RBC0, 18 RBC1, 19 RD9, 20 RD8, 21 RD7, 22 RD6, 23 RD5, 24 RD4, 25 RD3, 26 VDD, 27 RD2, 28 RD1, 29 RD0, 30 Sync/Pass, 31 PRBS_En, 32 Sync_En, 33 RXN, 34 RXP, 35 GNDA, 36 VDDPLL, 37 VDDA, 38 TXP, 39 TXN, 40 GNDA, 41 GND

## TOSLINK RECEIVER
designator U?
Value: TOSLINK RECEIVER
pins: 1 RO, 2 Gnd, 3 Vcc

## UAA180
designator DD?
Value: UAA180
footprint UAA180
pins: 1, 2, 3, 4 D1, 5, 6, 7, 8, 9 Q3, 10, 11, 12, 13, 14, 15, 16, 17, 18

## UC3843
designator DD?
Value: UC3843
footprint DIP8
pins: 1 COMP, 2 vin, 3 Cur_sense, 4 r0ct, 5 GND, 6 Output, 7 VCC, 8 Vref

## W5200
designator DD?
Value: W5200
footprint W5200
pins: 1 XTAL_IN, 2 XTAL_OUT, 3 FDXLEDn, 4 SPDLEDn, 5 LINKLEDn, 6 SPIEN, 7 RSV, 8 VCC1V8_1, 9 GND, 10 GND, 11 VCC3V3A_1, 12 BIAS, 13 GNDA, 14 VCC1V8_OUT, 15 VCC3V3A_2, 16 XTAL_VDD, 17 TXOP, 18 TXON, 19 GNDA, 20 RXIP, 21 RXIN, 22 GNDA, 23 VCC3V3A_3, 24 GNDA, 25 VCC1V8_2, 26 GND, 27 VCC3V3_1, 28 GND, 29 ANE, 30 A0/DUP, 31 A1/SPD, 32 D0, 33 D1, 34 D2, 35 D3, 36 D4, 37 D5, 38 D6, 39 D7, 40 ~{INTn}, 41 SSn/~{CSn}, 42 SCLK/~{RDn}, 43 MOSI/~{WRn}, 44 MISO, 45 PWDN, 46 ~{RSTn}, 47 VCC3V3_2, 48 GND